# Altium footprint library SX1276_e268v01a.PcbLib: 69 footprints (part 5 of 5)
Each footprint in its own frame and in the unit in brackets; x right, y up, seen from the top. Pads: shape width x height; smd on the part's side, far side on the other; paste and mask are expansions set on the pad; w line width, h text height; cw(c..) or ccw(c..) is an arc to the next point about the centre after c.
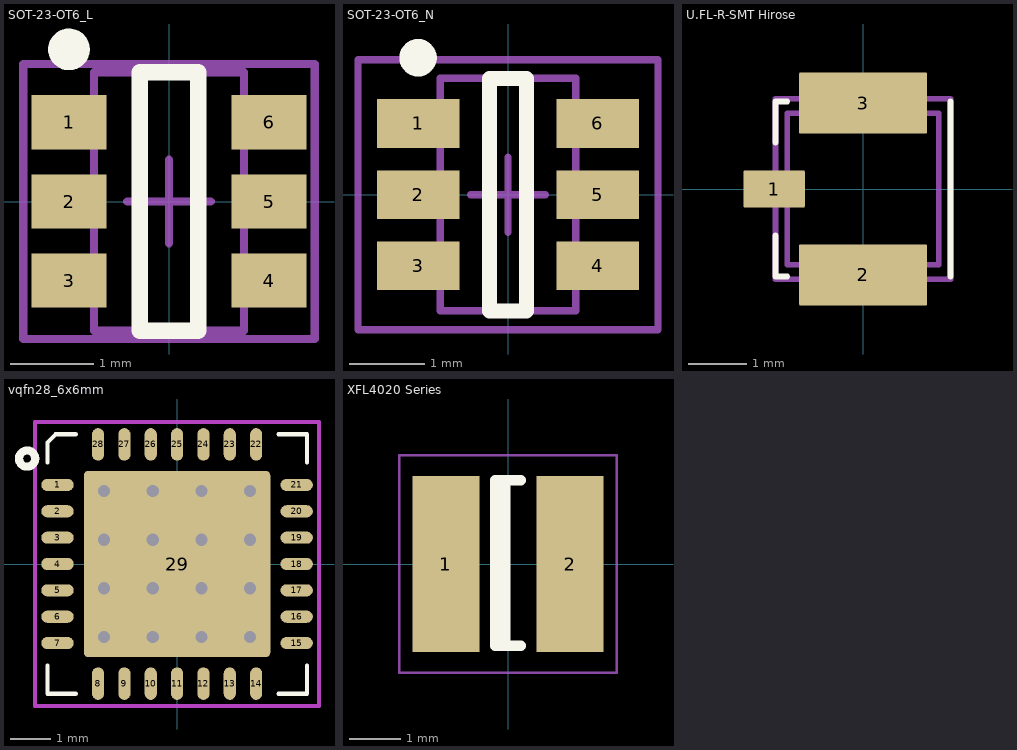
[diagram p4: the footprints below, top view; thin cyan lines are the x and y axes]

## SOT-23-OT6_L [mm] "SOT23, 6-Leads, Body 2.9x1.6mm, Pitch 0.95mm, Lead Span 2.7mm, IPC High Density"
height 1.45
pads (6):
  rect 0.9x0.65 smd: 1(-1.2,0.95) 2(-1.2,0) 3(-1.2,-0.95) 4(1.2,-0.95) 5(1.2,0) 6(1.2,0.95)
Top Overlay:
  circle w0.25: c-1.2,1.825 r0.125
  lines w0.2: -0.35,-1.55 -0.35,1.55 0.35,1.55 0.35,-1.55 -0.35,-1.55
Mechanical 13:
  lines w0.1: -0.9,-1.55 0.9,-1.55 0.9,1.55 -0.9,1.55 -0.9,-1.55
Mechanical 15:
  lines w0.1: -0.5,0 0.5,0 ; 0,-0.5 0,0.5 ; -1.75,-1.65 1.75,-1.65 1.75,1.65 -1.75,1.65 -1.75,-1.65
3D body: height 1.45, standoff 0, extent -0.9,-1.55 0.9,1.55

## SOT-23-OT6_N [mm] "SOT23, 6-Leads, Body 2.9x1.6mm, Pitch 0.95mm, Lead Span 2.7mm, IPC Medium Density"
height 1.45
pads (6):
  rect 1.1x0.65 smd: 1(-1.2,0.95) 2(-1.2,0) 3(-1.2,-0.95) 4(1.2,-0.95) 5(1.2,0) 6(1.2,0.95)
Top Overlay:
  circle w0.25: c-1.2,1.825 r0.125
  lines w0.2: -0.25,-1.55 -0.25,1.55 0.25,1.55 0.25,-1.55 -0.25,-1.55
Mechanical 13:
  lines w0.1: -0.9,-1.55 0.9,-1.55 0.9,1.55 -0.9,1.55 -0.9,-1.55
Mechanical 15:
  lines w0.1: -0.5,0 0.5,0 ; 0,-0.5 0,0.5 ; -2,-1.8 2,-1.8 2,1.8 -2,1.8 -2,-1.8
3D body: height 1.45, standoff 0, extent -0.9,-1.55 0.9,1.55

## U.FL-R-SMT Hirose [mm] "Hirose U.FL RF receptacle - U.FL-R-SMT"
height 1.2
pads (3):
  rrect5% 1.05x0.635 smd: 1(-1.525,0)
  rrect5% 2.2x1.05 smd: 2(0,-1.475) 3(0,1.475)
Top Overlay:
  lines w0.1: -1.5,-0.8 -1.5,-1.5 -1.3,-1.5 ; -1.5,0.8 -1.5,1.5 -1.3,1.5 ; 1.5,-1.5 1.5,1.5
Mechanical 13:
  lines w0.1: -1.5,-1.55 1.5,-1.55 1.5,1.55 -1.5,1.55 -1.5,-1.55
Mechanical 15:
  lines w0.1: -1.3,-1.3 1.3,-1.3 1.3,1.3 -1.3,1.3 -1.3,-1.3
3D body: height 16, standoff 1.3, extent -1.5,-1.5 1.5,1.5

## vqfn28_6x6mm [mm] "28 Leads, Body 6.0x6.0mm, Pitch 0.65mm, VQFN28"
height 1
pads (29):
  oval 0.8x0.3 smd mask+0.05: 1(-2.95,1.95) 2(-2.95,1.3) 3(-2.95,0.65) 4(-2.95,0) 5(-2.95,-0.65) 6(-2.95,-1.3) 7(-2.95,-1.95) 15(2.95,-1.95) 16(2.95,-1.3) 17(2.95,-0.65) 18(2.95,0) 19(2.95,0.65) 20(2.95,1.3) 21(2.95,1.95)
  oval 0.3x0.8 smd mask+0.05: 8(-1.95,-2.95) 9(-1.3,-2.95) 10(-0.65,-2.95) 11(0,-2.95) 12(0.65,-2.95) 13(1.3,-2.95) 14(1.95,-2.95) 22(1.95,2.95) 23(1.3,2.95) 24(0.65,2.95) 25(0,2.95) 26(-0.65,2.95) 27(-1.3,2.95) 28(-1.95,2.95)
  rrect5% 4.6x4.6 smd paste-3.3 mask+0.05: 29(0,0)
via 1.8,0.6 diameter 0.6 hole 0.3
via 0.6,1.8 diameter 0.6 hole 0.3
via 0.6,0.6 diameter 0.6 hole 0.3
via -0.6,-0.6 diameter 0.6 hole 0.3
via -0.6,0.6 diameter 0.6 hole 0.3
via -0.6,1.8 diameter 0.6 hole 0.3
via -0.6,-1.8 diameter 0.6 hole 0.3
via 0.6,-0.6 diameter 0.6 hole 0.3
via -1.8,0.6 diameter 0.6 hole 0.3
via -1.8,-0.6 diameter 0.6 hole 0.3
via -1.8,1.8 diameter 0.6 hole 0.3
via 1.8,-0.6 diameter 0.6 hole 0.3
via 0.6,-1.8 diameter 0.6 hole 0.3
via 1.8,-1.8 diameter 0.6 hole 0.3
via -1.8,-1.8 diameter 0.6 hole 0.3
via 1.8,1.8 diameter 0.6 hole 0.3
Top Overlay:
  circle w0.2: c-3.7,2.6 r0.2
  lines w0.1: -3.2,-2.5 -3.2,-3.2 -2.5,-3.2 ; -3.2,2.5 -3.2,3 -3,3.2 -2.5,3.2 ; 2.5,-3.2 3.2,-3.2 3.2,-2.5 ; 2.5,3.2 3.2,3.2 3.2,2.5
Top Paste:
  region: 0.8,1.6 0.8,0.8 1.6,0.8 1.6,1.6
  region: -0.4,0.4 -0.4,-0.4 0.4,-0.4 0.4,0.4
  region: -1.6,0.4 -1.6,-0.4 -0.8,-0.4 -0.8,0.4
  region: -0.4,1.6 -0.4,0.8 0.4,0.8 0.4,1.6
  region: -1.6,1.6 -1.6,0.8 -0.8,0.8 -0.8,1.6
  region: 0.8,0.4 0.8,-0.4 1.6,-0.4 1.6,0.4
  region: -0.4,-0.8 -0.4,-1.6 0.4,-1.6 0.4,-0.8
  region: 0.8,-0.8 0.8,-1.6 1.6,-1.6 1.6,-0.8
  region: -1.6,-0.8 -1.6,-1.6 -0.8,-1.6 -0.8,-0.8
Mechanical 15 keep-out:
  lines w0.1: -3.5,-3.5 3.5,-3.5 3.5,3.5 -3.5,3.5 -3.5,-3.5
3D body: height 1, standoff 0.05, extent -3,-3 3,3

## XFL4020 Series [mm] "Chip SMD component ; Body 4.0 x 4.0 mm (LxW typ)"
height 2.1
pads (2):
  rect 1.3x3.4 smd mask+0.05: 1(-1.2,0) 2(1.2,0)
Top Overlay:
  lines w0.2: -0.056,-1.579 -0.056,1.621 ; 0.25,-1.579 -0.246,-1.579 -0.246,1.621 0.25,1.621
Mechanical 15:
  lines w0.05: -2.1,-2.1 -2.1,2.1 2.1,2.1 2.1,-2.1 -2.1,-2.1